# Altium schematic symbol library SD Cards.SchLib: 1 symbol
Pins are listed as number, name and electrical type; pins without a type are passive.

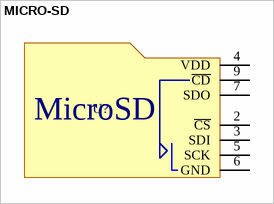
[diagram p0: symbol MICRO-SD]

## MICRO-SD
designator U?, comment MicroSD  (value not drawn)
footprint MICRO-SD-CARD
pins: 2 ~{CS}, 3 SDI, 4 VDD, 5 SCK, 6 GND, 7 SDO, 9 ~{CD}